# Altium integrated library MOSFET_HBridge.IntLib: 3 symbols
Pins are listed as number, name and electrical type; pins without a type are passive.

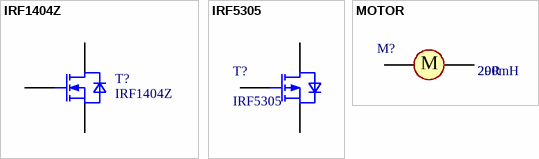
[diagram p0: symbols IRF1404Z to MOTOR]

## IRF1404Z
designator T?
Insulated-Gate Field-Effect Transistor (IGFET), N-Channel, Enhancement, Body Diode, Pin 1 Gate, 2 Drain, 3 Source, 3 Pins
footprint PG-TO220-3-904 (TO,flange mount,2.54mm pitch;3 pin,4.45mm L X 10.66mm W X 19.15mm H body)
simulation model irf1404z (Model Description)
pins: 1 GATE, 2 DRAIN, 3 SOURCE

## IRF5305
designator T?
OptiMOS - P2 Power-Transistor, P-channel-Enhancement mode, VDS -30V
footprint PG-TO220-3-904 (TO,flange mount,2.54mm pitch;3 pin,4.45mm L X 10.66mm W X 19.15mm H body)
simulation model irf5305 (Model Description)
pins: 1 GATE, 2 SOURCE, 3 DRAIN

## MOTOR
designator M?  value 200mH  RSER: 29R  (hidden comment: *)
Motor Ersatzschaltbild für das HWE-Projekt H-Brücke. / ------------------------------------------------------- / ESB: Widerstand + Spule in Serie
simulation model L_Inductor_Default (Model Description)
pins: 1, 2
text: M